# Altium schematic symbol library LMR14010ADDCR.Schlib: 1 symbol
Pins are listed as number, name and electrical type; pins without a type are passive.

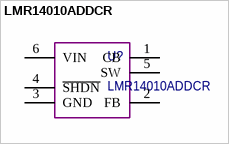
[diagram p0: symbol LMR14010ADDCR]

## LMR14010ADDCR
designator U?
pins: 1 CB, 2 FB, 3 GND, 4 ~{SHDN}, 5 SW, 6 VIN